# Altium schematic symbol library Transformers.SchLib: 18 symbols
Pins are listed as number, name and electrical type; pins without a type are passive.

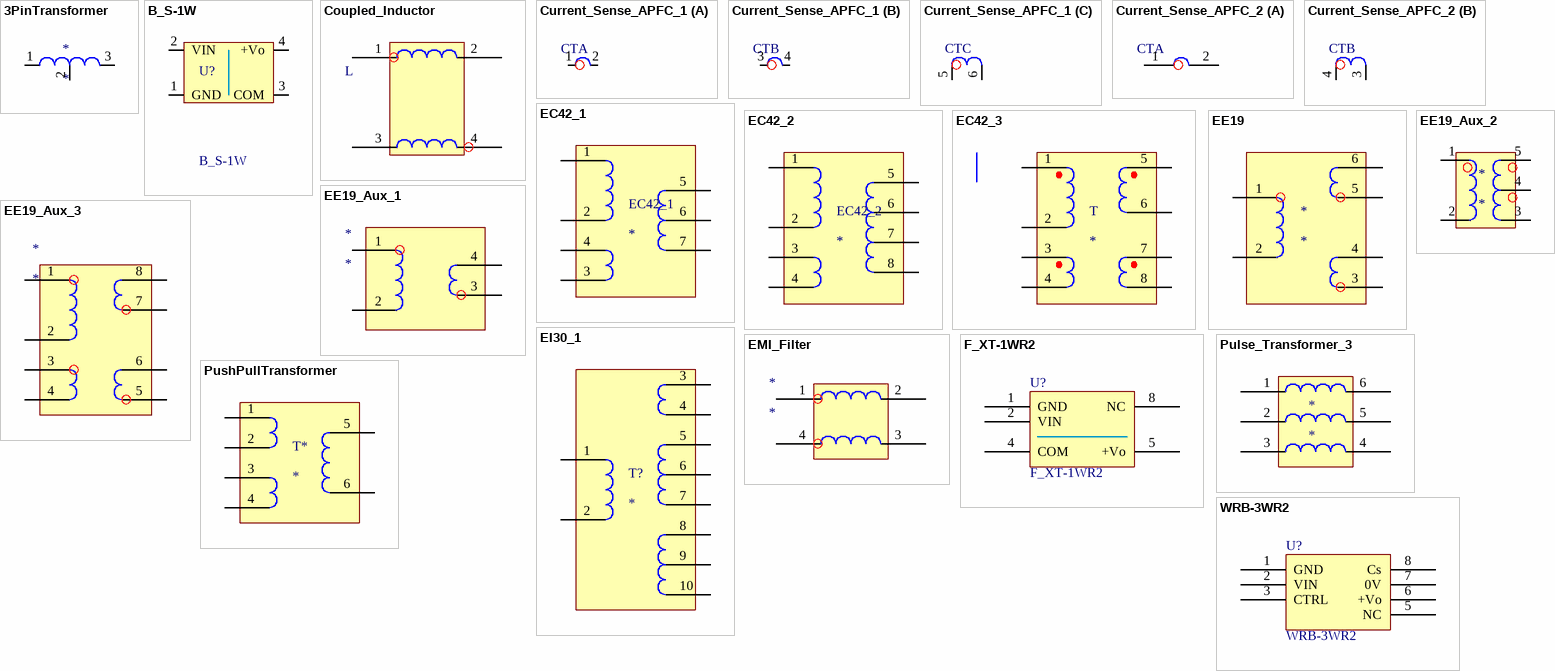
[diagram p0: symbols 3PinTransformer to WRB-3WR2]

## 3PinTransformer
designator *
pins: 1, 2, 3

## B_S-1W
designator U?
footprint B_S-1W
pins: 1 GND, 2 VIN, 3 COM, 4 +Vo

## Coupled_Inductor
designator L
footprint EMI_TRF3173
pins: 1, 2, 3, 4

## Current_Sense_APFC_1
designator CT  (value not drawn)
footprint Current_Senser_4
part A pins: 1, 2
part B pins: 3, 4
part C pins: 5, 6

## Current_Sense_APFC_2
designator CT  (value not drawn)
footprint Current_Senser_2
part A pins: 1, 2
part B pins: 3, 4

## EC42_1
designator EC42_1
footprint EI30
pins: 1, 2, 3, 4, 5, 6, 7

## EC42_2
designator EC42_2
footprint EI30
pins: 1, 2, 3, 4, 5, 6, 7, 8 7

## EC42_3
designator T
footprint EI30
pins: 1, 2, 3, 4, 5, 6, 7, 8 7

## EE19
designator *
pins: 1, 2, 3, 4, 5, 6

## EE19_Aux_1
designator *
footprint EE19_4Pin
pins: 1, 2, 3, 4

## EE19_Aux_2
designator *
footprint EE19_5Pin
pins: 1, 2, 3, 4, 5

## EE19_Aux_3
designator *
footprint EE19_6Pin
pins: 1, 2, 3, 4, 5, 6, 7, 8

## EI30_1
designator T?
footprint EI30
pins: 1, 2, 3, 4, 5, 6, 7, 8, 9, 10

## EMI_Filter
designator *
footprint EMI_TRF3173 (Footprint not found)
footprint EMI_TRF3173
pins: 1, 2, 3, 4

## F_XT-1WR2
designator U?
footprint F_XT-1WR2
pins: 1 GND, 2 VIN, 4 COM, 5 +Vo, 8 NC

## Pulse_Transformer_3
designator *
footprint Pulse_Transformer_6Pin
pins: 1, 2, 3, 4, 5, 6

## PushPullTransformer
designator T*
footprint EI30
pins: 1, 2, 3, 4, 5, 6

## WRB-3WR2
designator U?
footprint WRB3W_2
pins: 1 GND, 2 VIN, 3 CTRL, 5 NC, 6 +Vo, 7 0V, 8 Cs